# EAGLE library part ATMEGA328P (library StasDuino_Lib)
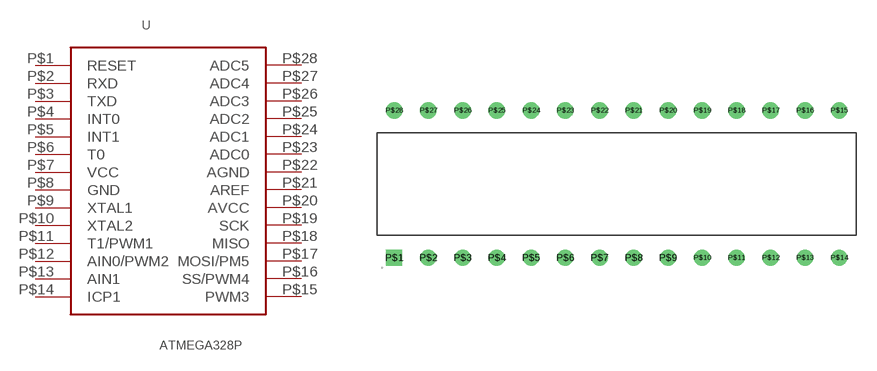
[diagram p0: symbol with the pads of ATMEGA328P; footprint ATMEGA328P]

Designator prefix -

## ATMEGA328P  [ATMEGA328P]
P$1  RESET
P$2  RXD
P$3  TXD
P$4  INT0
P$5  INT1
P$6  T0
P$7  VCC
P$8  GND
P$9  XTAL1
P$10  XTAL2
P$11  T1/PWM1
P$12  AIN0/PWM2
P$13  AIN1
P$14  ICP1
P$15  PWM3
P$16  SS/PWM4
P$17  MOSI/PM5
P$18  MISO
P$19  SCK
P$20  AVCC
P$21  AREF
P$22  AGND
P$23  ADC0
P$24  ADC1
P$25  ADC2
P$26  ADC3
P$27  ADC4
P$28  ADC5

## Footprint ATMEGA328P (pad centres in mm)
drill 0.7 square: P$1 -16.51,-5.461
drill 0.7: P$2 -13.97,-5.461; P$3 -11.43,-5.461; P$4 -8.89,-5.461; P$5 -6.35,-5.461; P$6 -3.81,-5.461; P$7 -1.27,-5.461; P$8 1.27,-5.461; P$9 3.81,-5.461; P$10 6.35,-5.461; P$11 8.89,-5.461; P$12 11.43,-5.461; P$13 13.97,-5.461; P$14 16.51,-5.461; P$15 16.51,5.461; P$16 13.97,5.461; P$17 11.43,5.461; P$18 8.89,5.461; P$19 6.35,5.461; P$20 3.81,5.461; P$21 1.27,5.461; P$22 -1.27,5.461; P$23 -3.81,5.461; P$24 -6.35,5.461; P$25 -8.89,5.461; P$26 -11.43,5.461; P$27 -13.97,5.461; P$28 -16.51,5.461